# Altium footprint library ABS.PcbLib: 1 footprints
Each footprint in its own frame and in the unit in brackets; x right, y up, seen from the top. Pads: shape width x height; smd on the part's side, far side on the other; paste and mask are expansions set on the pad; w line width, h text height; cw(c..) or ccw(c..) is an arc to the next point about the centre after c.
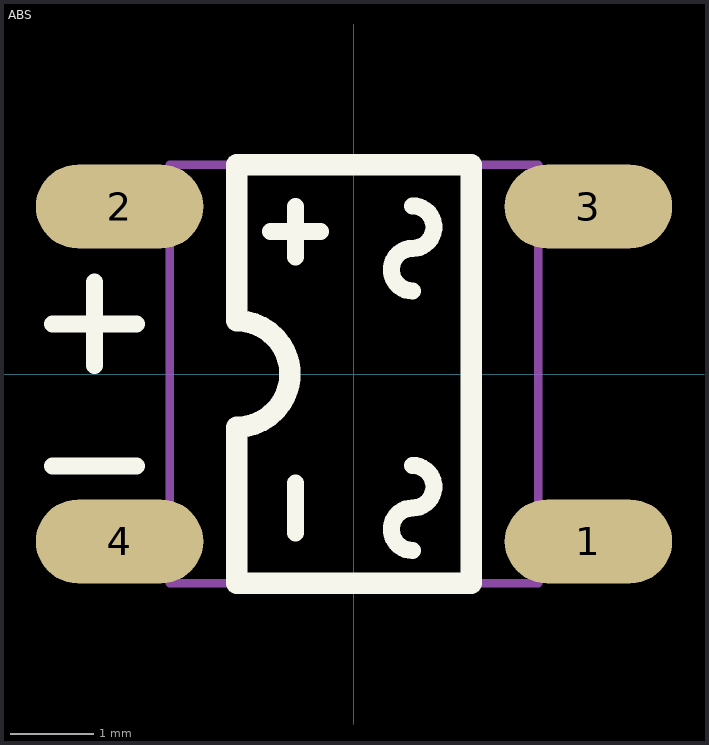
[diagram p0: the footprint, top view; thin cyan lines are the x and y axes]

## ABS [mm]
pads (4):
  oval 2x1 smd: 1(2.8,-2) 2(-2.8,2) 3(2.8,2) 4(-2.8,-2)
Top Overlay:
  lines w0.203: -3.6,-1.1 -2.6,-1.1 ; -3.6,0.6 -2.6,0.6 ; -3.1,0.1 -3.1,1.1 ; -1,1.7 -0.4,1.7 ; -0.7,-1.9 -0.7,-1.3 ; -0.7,1.4 -0.7,2 ; 0.7,-2.108 cw(c0.7,-1.854) 0.7,-1.6 ccw(c0.7,-1.346) 0.7,-1.092 ; 0.7,0.992 cw(c0.7,1.246) 0.7,1.5 ccw(c0.7,1.754) 0.7,2.008
  lines w0.254: -1.4,-2.5 1.4,-2.5 1.4,2.5 -1.4,2.5 -1.4,0.635 cw(c-1.4,0) -1.4,-0.635 -1.4,-2.5
Mechanical 13:
  lines w0.1: -2.2,-2.5 2.2,-2.5 2.2,2.5 -2.2,2.5 -2.2,-2.5